# EAGLE library part MOSFET2NCH (library Sparky)
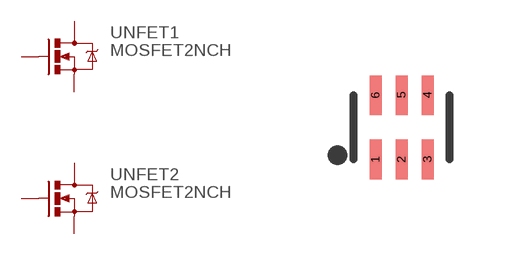
[diagram p9: symbol with the pads of SOT-363; footprint SOT-363]

Designator prefix -; gates NFET1=MOSFETNCH NFET2=MOSFETNCH

## MOSFET2NCH  [SOT-363]
1  NFET1:S  pas
2  NFET1:G  pas
3  NFET2:D  pas
4  NFET2:S  pas
5  NFET2:G  pas
6  NFET1:D  pas

## Footprint SOT-363 (pad centres in mm)
smd 0.3 x 0.99: 1 -0.65,-0.8; 2 0,-0.8; 3 0.65,-0.8; 4 0.65,0.81; 5 0,0.81; 6 -0.65,0.81